# Altium schematic symbol library SCH - MCU - INFINEON - INFINEON MB9BF467MPMC LQFP-80.SchLib: 1 symbol
Pins are listed as number, name and electrical type; pins without a type are passive.

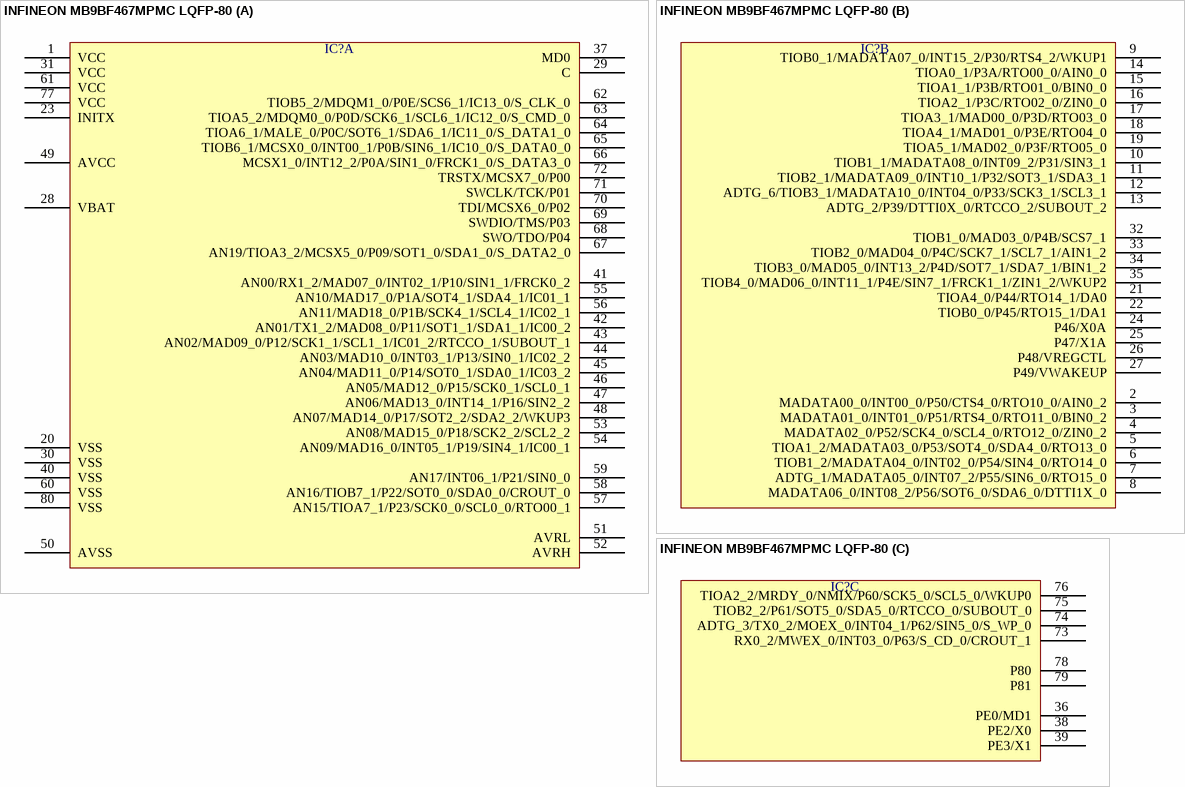
[diagram p0: symbol INFINEON MB9BF467MPMC LQFP-80]

## INFINEON MB9BF467MPMC LQFP-80
designator IC?  (value not drawn)
part A pins: 1 VCC, 20 VSS, 23 INITX, 28 VBAT, 29 C, 30 VSS, 31 VCC, 37 MD0, 40 VSS, 41 AN00/RX1_2/MAD07_0/INT02_1/P10/SIN1_1/FRCK0_2, 42 AN01/TX1_2/MAD08_0/P11/SOT1_1/SDA1_1/IC00_2, 43 AN02/MAD09_0/P12/SCK1_1/SCL1_1/IC01_2/RTCCO_1/SUBOUT_1, 44 AN03/MAD10_0/INT03_1/P13/SIN0_1/IC02_2, 45 AN04/MAD11_0/P14/SOT0_1/SDA0_1/IC03_2, 46 AN05/MAD12_0/P15/SCK0_1/SCL0_1, 47 AN06/MAD13_0/INT14_1/P16/SIN2_2, 48 AN07/MAD14_0/P17/SOT2_2/SDA2_2/WKUP3, 49 AVCC, 50 AVSS, 51 AVRL, 52 AVRH, 53 AN08/MAD15_0/P18/SCK2_2/SCL2_2, 54 AN09/MAD16_0/INT05_1/P19/SIN4_1/IC00_1, 55 AN10/MAD17_0/P1A/SOT4_1/SDA4_1/IC01_1, 56 AN11/MAD18_0/P1B/SCK4_1/SCL4_1/IC02_1, 57 AN15/TIOA7_1/P23/SCK0_0/SCL0_0/RTO00_1, 58 AN16/TIOB7_1/P22/SOT0_0/SDA0_0/CROUT_0, 59 AN17/INT06_1/P21/SIN0_0, 60 VSS, 61 VCC, 62 TIOB5_2/MDQM1_0/P0E/SCS6_1/IC13_0/S_CLK_0, 63 TIOA5_2/MDQM0_0/P0D/SCK6_1/SCL6_1/IC12_0/S_CMD_0, 64 TIOA6_1/MALE_0/P0C/SOT6_1/SDA6_1/IC11_0/S_DATA1_0, 65 TIOB6_1/MCSX0_0/INT00_1/P0B/SIN6_1/IC10_0/S_DATA0_0, 66 MCSX1_0/INT12_2/P0A/SIN1_0/FRCK1_0/S_DATA3_0, 67 AN19/TIOA3_2/MCSX5_0/P09/SOT1_0/SDA1_0/S_DATA2_0, 68 SWO/TDO/P04, 69 SWDIO/TMS/P03, 70 TDI/MCSX6_0/P02, 71 SWCLK/TCK/P01, 72 TRSTX/MCSX7_0/P00, 77 VCC, 80 VSS
part B pins: 2 MADATA00_0/INT00_0/P50/CTS4_0/RTO10_0/AIN0_2, 3 MADATA01_0/INT01_0/P51/RTS4_0/RTO11_0/BIN0_2, 4 MADATA02_0/P52/SCK4_0/SCL4_0/RTO12_0/ZIN0_2, 5 TIOA1_2/MADATA03_0/P53/SOT4_0/SDA4_0/RTO13_0, 6 TIOB1_2/MADATA04_0/INT02_0/P54/SIN4_0/RTO14_0, 7 ADTG_1/MADATA05_0/INT07_2/P55/SIN6_0/RTO15_0, 8 MADATA06_0/INT08_2/P56/SOT6_0/SDA6_0/DTTI1X_0, 9 TIOB0_1/MADATA07_0/INT15_2/P30/RTS4_2/WKUP1, 10 TIOB1_1/MADATA08_0/INT09_2/P31/SIN3_1, 11 TIOB2_1/MADATA09_0/INT10_1/P32/SOT3_1/SDA3_1, 12 ADTG_6/TIOB3_1/MADATA10_0/INT04_0/P33/SCK3_1/SCL3_1, 13 ADTG_2/P39/DTTI0X_0/RTCCO_2/SUBOUT_2, 14 TIOA0_1/P3A/RTO00_0/AIN0_0, 15 TIOA1_1/P3B/RTO01_0/BIN0_0, 16 TIOA2_1/P3C/RTO02_0/ZIN0_0, 17 TIOA3_1/MAD00_0/P3D/RTO03_0, 18 TIOA4_1/MAD01_0/P3E/RTO04_0, 19 TIOA5_1/MAD02_0/P3F/RTO05_0, 21 TIOA4_0/P44/RTO14_1/DA0, 22 TIOB0_0/P45/RTO15_1/DA1, 24 P46/X0A, 25 P47/X1A, 26 P48/VREGCTL, 27 P49/VWAKEUP, 32 TIOB1_0/MAD03_0/P4B/SCS7_1, 33 TIOB2_0/MAD04_0/P4C/SCK7_1/SCL7_1/AIN1_2, 34 TIOB3_0/MAD05_0/INT13_2/P4D/SOT7_1/SDA7_1/BIN1_2, 35 TIOB4_0/MAD06_0/INT11_1/P4E/SIN7_1/FRCK1_1/ZIN1_2/WKUP2
part C pins: 36 PE0/MD1, 38 PE2/X0, 39 PE3/X1, 73 RX0_2/MWEX_0/INT03_0/P63/S_CD_0/CROUT_1, 74 ADTG_3/TX0_2/MOEX_0/INT04_1/P62/SIN5_0/S_WP_0, 75 TIOB2_2/P61/SOT5_0/SDA5_0/RTCCO_0/SUBOUT_0, 76 TIOA2_2/MRDY_0/NMIX/P60/SCK5_0/SCL5_0/WKUP0, 78 P80, 79 P81